# Altium footprint library BLV.PcbLib: 12 footprints
Each footprint in its own frame and in the unit in brackets; x right, y up, seen from the top. Pads: shape width x height; smd on the part's side, far side on the other; paste and mask are expansions set on the pad; w line width, h text height; cw(c..) or ccw(c..) is an arc to the next point about the centre after c.
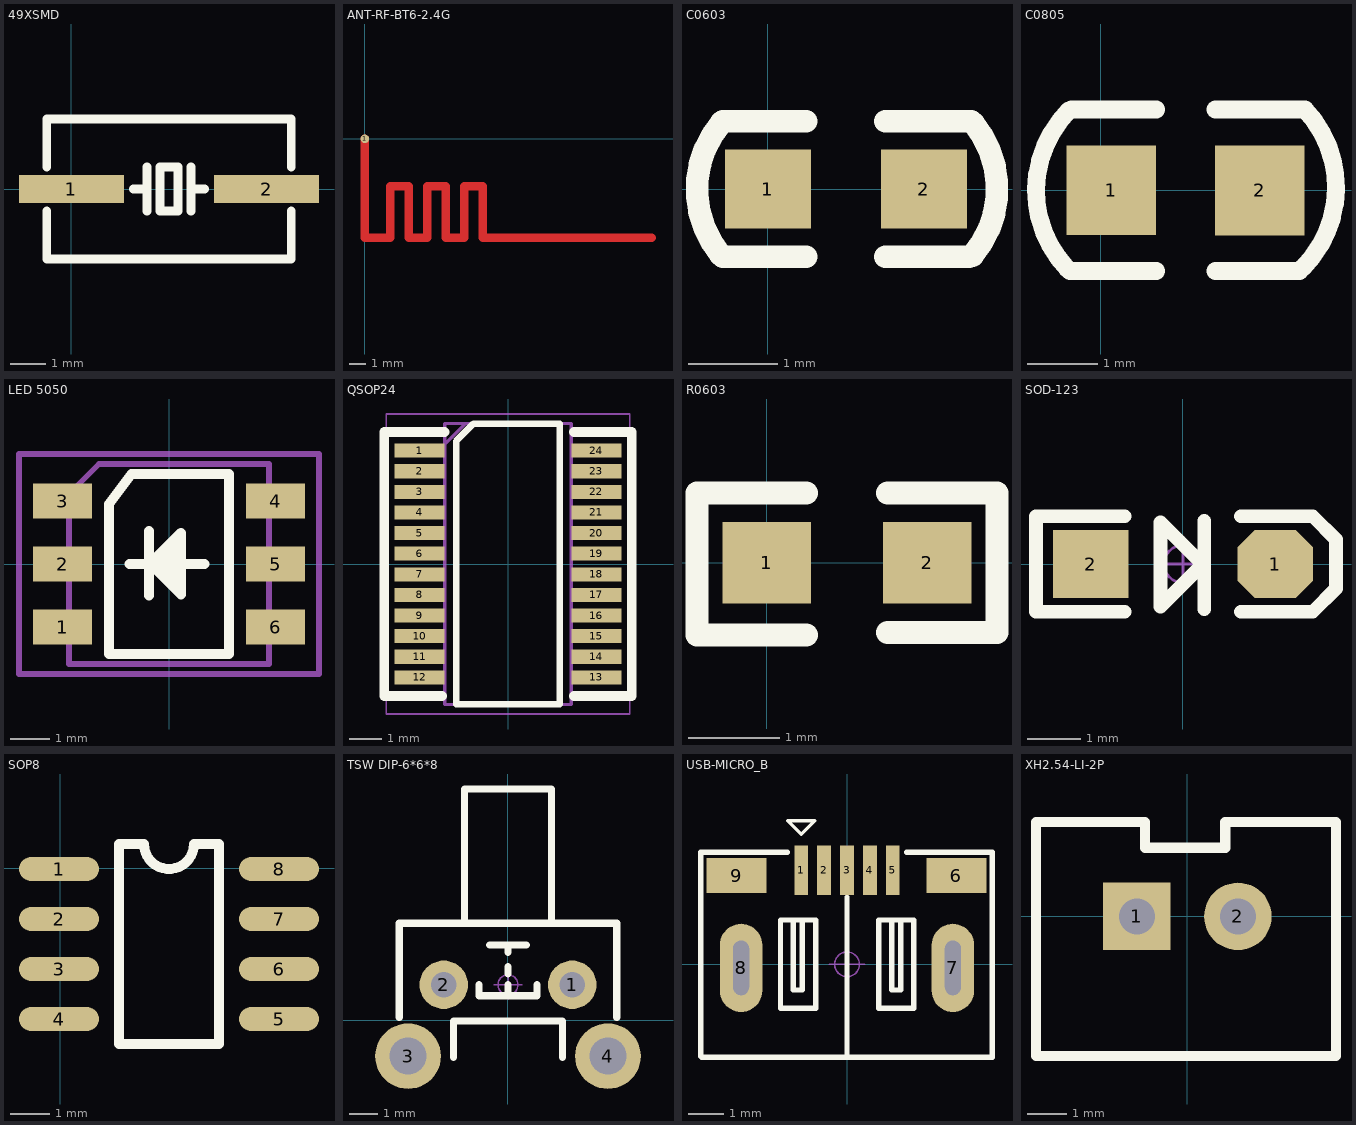
[diagram p0: the footprints below, top view; thin cyan lines are the x and y axes]

## 49XSMD [mm]
pads (2):
  rect 3x0.8 smd: 1(0,0) 2(5.588,0)
Top Overlay:
  lines w0.254: -0.706,-0.631 -0.706,-1.5 -0.706,-2 6.294,-2 6.294,-1.5 6.294,-0.631 ; -0.706,0.631 -0.706,1.5 -0.706,2 6.294,2 6.294,1.5 6.294,0.631 ; 1.778,0 2.159,0 ; 2.159,-0.635 2.159,0 ; 2.159,0.635 2.159,0 ; 3.429,-0.635 3.429,0 ; 3.429,0.635 3.429,0 ; 3.81,0 3.429,0 ; 2.54,-0.635 2.54,0.635 3.048,0.635 3.048,-0.635 2.54,-0.635
3D body "HC49XSMD.STEP": height 2.31, standoff 0.09, extent -0.994,-2.074 6.606,2.026

## ANT-RF-BT6-2.4G [mil]
pads (1):
  round 20 smd: 1(0,0)
Top Layer:
  lines w19.68: 0,0 0,-230.46 59.05,-230.46 59.05,-110.38 102.36,-110.38 102.36,-230.46 145.67,-230.46 145.67,-110.38 188.98,-110.38 188.98,-230.46 232.28,-230.46 232.28,-110.38 275.59,-110.38 275.59,-230.46 669.29,-230.46
Top Solder:
  rectangle: -16,-251 292,-94
  rectangle: 279,-251 684,-218
  rectangle: -16,-115 16,17

## C0603 [mil]
pads (2):
  rect 38x35 smd: 1(0,0) 2(69,0)
Top Overlay:
  lines w10: -21,-29 cw(c14.45,-0.04) -20.48,29.56 ; -20,-30 17,-30 ; -20,30 17,30 ; 52,-30 89,-30 ; 52,30 90,30 ; 90.48,-29.56 ccw(c55.55,0.04) 91,29
3D body "User Library-0603 SMD Capacitor.STEP": height 11.89, standoff 0, extent 3.8,-15.8 66.8,15.7

## C0805 [mil]
pads (2):
  rect 50x50 smd: 1(6,0) 2(88.7,-0.1)
Top Overlay:
  lines w10: -18.66,-43.67 cw(c27.24,-0.08) -17.7,44.5 ; -17.2,-45 31,-45 ; -16.3,45 31,45 ; 64,-45 111,-45 ; 64,45 113.1,45 ; 112.92,-43.04 ccw(c67.98,1.54) 114,45
3D body "User Library-0805 SMD Capacitor.STEP": height 30.39, standoff -0.39, extent 7.93,-24.5 86.67,24.71

## LED 5050 [mm] "白色5050LED                                           淘宝ID:黄晶宝石"
pads (6):
  rect 1.5x0.9 smd: 1(-2.705,-1.6) 2(-2.705,0) 3(-2.705,1.6) 4(2.705,1.6) 5(2.705,0) 6(2.705,-1.6)
Top Overlay:
  lines w0.254: -1.002,0 0.903,0 ; -0.509,-0.805 -0.509,0.841 ; -0.509,0.038 0.304,-0.775 0.304,0.792 -0.468,0.02 ; -0.113,0.254 -0.113,0 -0.113,-0.254 -0.367,0 0.116,0.432 0.141,-0.559 ; -1.524,-2.286 1.524,-2.286 1.524,2.286 -0.953,2.286 -1.524,1.524 -1.524,-2.286
Mechanical 13:
  lines w0.15: -2.54,-2.54 2.54,-2.54 2.54,2.54 -1.778,2.54 -2.54,1.778 -2.54,-2.54
Mechanical 15:
  circle w0.05: c0,0 r0.35
  lines w0.05: -0.5,0 0.5,0 ; 0,-0.5 0,0.5
  lines w0.15: -3.81,-2.794 3.81,-2.794 3.81,2.794 -3.81,2.794 -3.81,-2.794
3D body "LED 5050 基体.STEP": height 1.65, standoff 0.05, extent -2.7,-2.5 2.7,2.5

## QSOP24 [mm]
pads (24):
  rect 1.55x0.435 smd: 1(-2.725,3.492) 2(-2.725,2.858) 3(-2.725,2.222) 4(-2.725,1.588) 5(-2.725,0.952) 6(-2.725,0.318) 7(-2.725,-0.318) 8(-2.725,-0.952) 9(-2.725,-1.588) 10(-2.725,-2.222) 11(-2.725,-2.858) 12(-2.725,-3.492) 13(2.725,-3.492) 14(2.725,-2.858) 15(2.725,-2.222) 16(2.725,-1.588) 17(2.725,-0.952) 18(2.725,-0.318) 19(2.725,0.318) 20(2.725,0.952) 21(2.725,1.588) 22(2.725,2.222) 23(2.725,2.858) 24(2.725,3.492)
Top Overlay:
  lines w0.2: -1.6,-4.325 -1.6,3.785 -1.06,4.325 1.6,4.325 1.6,-4.325 -1.6,-4.325
  lines w0.305: -2.032,-4.064 -3.81,-4.064 -3.81,4.06 -3.5,4.06 -1.95,4.06 ; 2.032,-4.064 3.81,-4.064 3.81,4.064 2.032,4.064
Mechanical 13:
  lines w0.1: -1.95,3.69 -1.315,4.325 ; -1.95,-4.325 -1.95,4.325 1.95,4.325 1.95,-4.325 -1.95,-4.325
Mechanical 15:
  lines w0.05: -3.75,-4.62 -3.75,4.62 3.75,4.62 3.75,-4.62 -3.75,-4.62
3D body "MAX7313AEG+.stp": height 1.75, standoff 0, extent -3.01,-4.325 3.01,4.325

## R0603 [mil] "1/10W"
pads (2):
  rect 38x35 smd: 1(0,0) 2(69,0)
Top Overlay:
  lines w10: 17,-31 -30,-31 -30,30 17,30 ; 52,-30 99,-30 99,30 52,30
3D body "R0603.STEP": height 17.72, standoff 0, extent 3.51,-15.74 66.5,15.75

## SOD-123 [mil] "2.7x1.6X1.1mm（长宽高，不包括引脚）"
pads (2):
  oct 55x50 smd: 1(67.5,0)
  rect 55x50 smd: 2(-67.5,0)
Top Overlay:
  lines w10: -42.5,-35 -107.5,-35 -107.5,35 -42.5,35 ; 14,-0.8 -16.4,-31.2 -16.4,30.5 15.6,-1.5 ; 15.6,-33.1 15.6,31.7 ; 42.5,-35 95,-35 112,-18 112,18 95,35 42.5,35
Mechanical 15:
  circle w1.97: c0,0 r13.78
  lines w1.97: -19.68,0 19.68,0 ; 0,-19.68 0,19.68
3D body "SOD-123.STEP": height 48.03, standoff 0, extent -72.84,-31.5 72.83,31.5

## SOP8 [mil]
pads (8):
  oval 80x24 smd: 1(-1,-1) 2(-1,-51) 3(-1,-101) 4(-1,-151) 5(219,-151) 6(219,-101) 7(219,-51) 8(219,-1)
Top Overlay:
  lines w10: 59,-176 159,-176 159,24 134,24 cw(c109,24) 84,24 59,24 59,-176
3D body "SOP8.STEP": height 62.99, standoff 0, extent -8.7,-173.62 229.17,24.02

## TSW DIP-6*6*8 [mm] "6*6*6mm"
pads (4):
  round 1.7 hole 0.9: 1(2.25,1.25) 2(-2.25,1.25)
  round 2.3 hole 1.3: 3(-3.5,-1.25) 4(3.5,-1.25)
Top Overlay:
  lines w0.254: -3.81,0.107 -3.81,3.409 3.81,3.409 3.81,0.107 ; -1.905,-1.29 -1.905,-0.02 1.905,-0.02 1.905,-1.29 ; -1.524,3.409 -1.524,8.108 1.524,8.108 1.524,3.409 ; -1.016,1.25 -1.016,0.869 1.016,0.869 1.016,1.25 ; -0.635,2.647 0.635,2.647 ; 0,0.869 0,1.25 ; 0,1.631 0,1.885 ; 0,2.393 0,2.647
Mechanical 15:
  circle w0.05: c0,1.25 r0.35
  lines w0.05: -0.5,1.25 0.5,1.25 ; 0,0.75 0,1.75
3D body "TSW DIP-6x6x8_V.STEP": height 7.48, standoff -3.4, extent -4.184,-2.877 4.179,7.973

## USB-MICRO_B [mm] "micro型USB ，5.9*8.2*2.5mm"
pads (9):
  rect 0.394x1.4 smd: 1(-1.295,2.667) 2(-0.648,2.667) 3(0,2.667) 4(0.648,2.667) 5(1.295,2.667)
  rect 1.7x1 smd: 6(3.099,2.515) 9(-3.124,2.515)
  oval 1.2x2.5 hole 0.45 slot 1.55 at 90 deg: 7(3,-0.1) 8(-3,-0.1)
Top Overlay:
  lines w0.1: -1.676,4.064 -1.295,3.683 -0.914,4.064 -1.676,4.064
  lines w0.15: -4.14,3.175 -1.689,3.175 ; 0,-2.629 0,1.905 ; 1.689,3.175 4.115,3.175
  lines w0.152: -4.14,-2.603 -4.14,3.175 ; -4.115,-2.629 4.089,-2.629 ; -1.524,1.257 -1.524,-0.728 -1.321,-0.728 -1.27,-0.728 -1.27,1.257 ; 1.27,1.257 1.27,-0.728 1.524,-0.728 1.524,1.257 ; 4.115,-2.629 4.115,3.175 ; -1.885,-1.243 -0.885,-1.243 -0.885,1.257 -1.885,1.257 -1.885,-1.243 ; 0.896,-1.243 0.896,1.257 1.896,1.257 1.896,-1.243 0.896,-1.243
Mechanical 15:
  circle w0.05: c0,0 r0.35
  lines w0.05: -0.5,0 0.5,0 ; 0,-0.5 0,0.5
3D body "USB micro_B.STEP": height 2.8, standoff -1.35, extent -4.001,-2.716 4.001,2.884

## XH2.54-LI-2P [mm] "接插件，2P"
pads (2):
  rect 1.7x1.7 hole 0.9: 1(-1.27,0)
  round 1.7 hole 0.9: 2(1.27,0)
Top Overlay:
  lines w0.254: -3.807,-3.505 -3.807,2.37 -1.067,2.37 -1.067,1.727 0.953,1.727 0.953,2.37 2.954,2.37 3.736,2.37 3.736,-3.505 -3.807,-3.505
3D body "XH2.54-2P.STEP": height 7.05, standoff -2.45, extent -3.77,-3.3 3.77,2.4